# EAGLE library part PHOENIX_1990232_1X24X2MM50_PTSA-0-5 (library df4iah_connector)
PCB terminal block - PTSA 0,5/24-2,5-Z - 1990232 PCB terminal block, nominal current: 2 A, nom. voltage: 250 V, pitch: 2.5 mm, number of positions: 24, connection method: Push-in spring connection, mounting: Wave soldering, conductor/PCB connection direction: 45 °
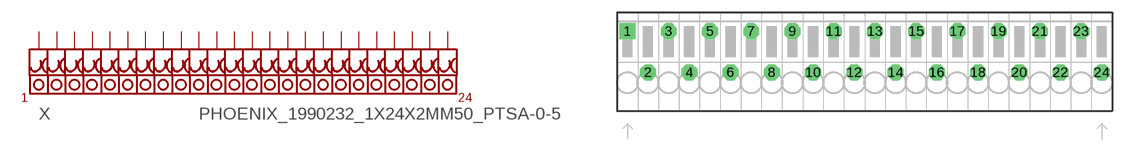
[diagram p29: symbol with the pads of PHOENIX_1990232_1X24X2MM50_PTSA-0-5; footprint PHOENIX_1990232_1X24X2MM50_PTSA-0-5]

Designator prefix X

## PHOENIX_1990232_1X24X2MM50_PTSA-0-5  [PHOENIX_1990232_1X24X2MM50_PTSA-0-5]
1  1  pas
2  2  pas
3  3  pas
4  4  pas
5  5  pas
6  6  pas
7  7  pas
8  8  pas
9  9  pas
10  10  pas
11  11  pas
12  12  pas
13  13  pas
14  14  pas
15  15  pas
16  16  pas
17  17  pas
18  18  pas
19  19  pas
20  20  pas
21  21  pas
22  22  pas
23  23  pas
24  24  pas

## Footprint PHOENIX_1990232_1X24X2MM50_PTSA-0-5 (pad centres in mm)
PCB terminal block - PTSA 0,5/24-2,5-Z - 1990232 PCB terminal block, nominal current: 2 A, nom. voltage: 250 V, pitch: 2.5 mm, number of positions: 24, connection method: Push-in spring connection, mounting: Wave soldering, conductor/PCB connection direction: 45 °
drill 1 pad 1.93 square: 1 -30,5
drill 1 pad 1.93 octagon: 2 -27.5,0; 3 -25,5; 4 -22.5,0; 5 -20,5; 6 -17.5,0; 7 -15,5; 8 -12.5,0; 9 -10,5; 10 -7.5,0; 11 -5,5; 12 -2.5,0; 13 0,5; 14 2.5,0; 15 5,5; 16 7.5,0; 17 10,5; 18 12.5,0; 19 15,5; 20 17.5,0; 21 20,5; 22 22.5,0; 23 25,5; 24 27.5,0